# Altium schematic symbol library RC1005F103CS.SchLib: 1 symbol
Pins are listed as number, name and electrical type; pins without a type are passive.

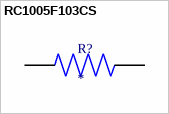
[diagram p0: symbol RC1005F103CS]

## RC1005F103CS
designator R?
10 kOhms Â±1% 0.063W, 1/16W Chip Resistor 0402 (1005 Metric) Moisture Resistant Thick Film; MF: Samsung Electro-Mechanics; MP: RC1005F103CS; SnapEDA_Link: https://www.snapeda.com/parts/RC1005F103CS/Samsung/view-part/?ref=snap; Package: 1005 Panasonic Electronic Components; Value: *; Check_prices: https://www.snapeda.com/parts/RC1005F103CS/Samsung/view-part/?ref=eda
footprint RESC1005X40N
pins: 1, 2